# Altium schematic symbol library Heat Sink.SchLib: 5 symbols
Pins are listed as number, name and electrical type; pins without a type are passive.

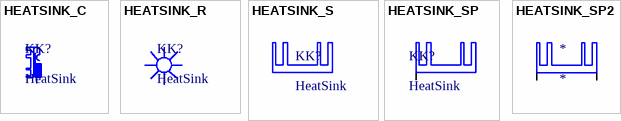
[diagram p0: symbols HEATSINK_C to HEATSINK_SP2]

## HEATSINK_C
designator KK?, comment HeatSink  (no BOM)
On Chip Heat Sink
footprint HS_PF752

## HEATSINK_R
designator KK?, comment HeatSink  (no BOM)
Round Heat Sink
footprint HS_KK185
footprint HS_KK505

## HEATSINK_S
designator KK?, comment HeatSink  (no BOM)
Simple Heat Sink
footprint HS_D01PA
footprint HS_D01S
footprint HS_D02A-L
footprint HS_D02PA
footprint HS_D02S
footprint HS_D03PA
footprint HS_D03S
footprint HS_FK201
footprint HS_FK209
footprint HS_FK213
footprint HS_SK12/25
footprint HS_SK13/35
footprint HS_SK36/37
footprint HS_SK36/50
footprint HS_SK36/75
footprint HS_SK68/37
footprint HS_SK68/50
footprint HS_SK95-2M3
footprint HS_SK96/84
footprint HS_SK104
footprint HS_SK125/50
footprint HS_SK125/84
footprint HS_SK129-HOLE

## HEATSINK_SP
designator KK?, comment HeatSink  (no BOM)
Simple Heat Sink with Mounting Hole
footprint HS_D01PA-PAD
footprint HS_D02PA-PAD
footprint HS_D03PA-PAD
footprint HS-PAD1
footprint HS-PAD2
footprint HS-PAD3
footprint HS-PAD4
pins: P Pad "Mounting Hole(s)"

## HEATSINK_SP2
designator *
Simple Heat Sink with 2 Mounting Hole
footprint OHMITE-RA-T2X-25E
footprint OHMITE-RA-T2X-38E
footprint OHMITE-RA-T2X-51E
footprint OHMITE-RA-T2X-64E
footprint HS_FK218
footprint HS_FK222
footprint HS_SK104-PAD
footprint HS_SK129
pins: P Pad "Mounting Hole(s)", P Pad "Mounting Hole(s)"